# Altium schematic symbol library rlc.SchLib: 226 symbols (part 2 of 2)
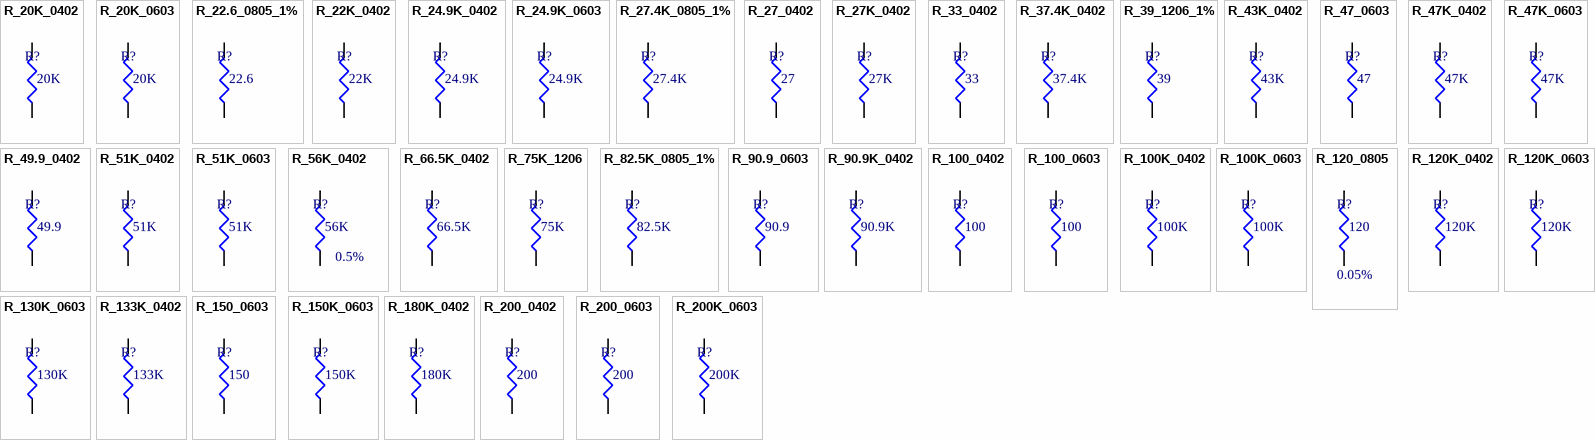
[diagram p6: symbols R_20K_0402 to R_200K_0603]

## R_20K_0603
designator R?, comment value 20K  (hidden comment: Chip resistor)
Chip resistor, 20K, 0603 package; tolerance: 1%; power: 1/10 W; package: 0603; Supplier 1: Digi-Key; Supplier Part Number 1: 541-20.0KHCT-ND
footprint 0603 (2-Leads, Body 1.55x0.85mm, IPC Medium Density)
pins: 1, 2

## R_22.6_0805_1%
designator R?, comment value 22.6  (hidden comment: Chip resistor)
Chip resistor, 22.6, 0805 package, 1%; power: 1/8 W; tolerance: 1%; package: 0805; Supplier 1: Digi-Key; Supplier Part Number 1: 541-22.6CCT-ND
footprint 0805 (Chip Resistor, Body 2.0x1.2mm, IPC Low Density)
pins: 1, 2

## R_22K_0402
designator R?, comment value 22K  (hidden comment: Chip resistor)
Chip resistor, 22K, 0402 package; tolerance: 1%; power: 1/16 W; package: 0402; Supplier 1: Digi-Key; Supplier Part Number 1: 541-22.0KLCT-ND
footprint 0402 (Chip Resistor, 2-Leads, Body 1.00x0.50mm, IPC Medium Density)
pins: 1, 2

## R_24.9K_0402
designator R?, comment value 24.9K  (hidden comment: Chip resistor)
Chip resistor, 24.9K, 0402 package; tolerance: 1%; power: 1/16 W; package: 0402; Supplier 1: Digi-Key; Supplier Part Number 1: 541-24.9KLCT-ND
footprint 0402 (2-Leads, Body 1.00x0.50mm, IPC Medium Density)
pins: 1, 2

## R_24.9K_0603
designator R?, comment value 24.9K  (hidden comment: Chip resistor)
Chip resistor, 24.9K, 0603 package; tolerance: 1%; power: 1/10 W; package: 0603; Supplier 1: Digi-Key; Supplier Part Number 1: 541-24.9KHCT-ND
footprint 0603 (2-Leads, Body 1.55x0.85mm, IPC Medium Density)
pins: 1, 2

## R_27.4K_0805_1%
designator R?, comment value 27.4K  (hidden comment: Chip resistor)
Chip resistor, 27.4K, 0805 package, 1%; power: 1/8 W; tolerance: 1%; package: 0805; Supplier 1: Digi-Key; Supplier Part Number 1: 541-27.4KCCT-ND
footprint 0805 (Chip Resistor, Body 2.0x1.2mm, IPC Low Density)
pins: 1, 2

## R_27_0402
designator R?, comment value 27  (hidden comment: Chip resistor)
Chip resistor, 27, 0402 package; tolerance: 1%; power: 1/16 W; package: 0402; Supplier 1: Digi-Key; Supplier Part Number 1: 541-27.0LCT-ND
footprint 0402 (Chip Resistor, 2-Leads, Body 1.00x0.50mm, IPC Medium Density)
pins: 1, 2

## R_27K_0402
designator R?, comment value 27K  (hidden comment: Chip resistor)
Chip resistor, 27K, 0402 package; tolerance: 1%; power: 1/16 W; package: 0402; Supplier 1: Digi-Key; Supplier Part Number 1: 541-27.0KLCT-ND
footprint 0402 (Chip Resistor, 2-Leads, Body 1.00x0.50mm, IPC Medium Density)
pins: 1, 2

## R_33_0402
designator R?, comment value 33  (hidden comment: Chip resistor)
Chip resistor, 33, 0402 package; tolerance: 1%; power: 1/16 W; package: 0402; Supplier 1: Digi-Key; Supplier Part Number 1: 541-33.0LCT-ND
footprint 0402 (Chip Resistor, 2-Leads, Body 1.00x0.50mm, IPC Medium Density)
pins: 1, 2

## R_37.4K_0402
designator R?, comment value 37.4K  (hidden comment: Chip resistor)
Chip resistor, 37.4K, 0402 package; tolerance: 1%; power: 1/16 W; package: 0402; Supplier 1: Digi-Key; Supplier Part Number 1: 541-37.4KLCT-ND
footprint 0402 (Chip Resistor, 2-Leads, Body 1.00x0.50mm, IPC Medium Density)
pins: 1, 2

## R_39_1206_1%
designator R?, comment value 39  (hidden comment: Chip resistor)
Chip resistor, 39, 1%, 1206 package; power: 1/4 W; tolerance: 1%; package: 1206; Supplier 1: Digi-Key; Supplier Part Number 1: 541-39.0FCT-ND
footprint 1206
pins: 1, 2

## R_43K_0402
designator R?, comment value 43K  (hidden comment: Chip resistor)
Chip resistor, 43K, 0402 package; tolerance: 1%; power: 1/16 W; Supplier 1: Digi-Key; Supplier Part Number 1: 541-43.0KLCT-ND; package: 0402
footprint 0402 (Chip Resistor, 2-Leads, Body 1.00x0.50mm, IPC Medium Density)
pins: 1, 2

## R_47_0603
designator R?, comment value 47  (hidden comment: Chip resistor)
Chip resistor, 47, 0603 package; tolerance: 1%; power: 1/10 W; package: 0603; Supplier 1: Digi-Key; Supplier Part Number 1: 541-47.0HCT-ND
footprint 0603 (2-Leads, Body 1.55x0.85mm, IPC Medium Density)
pins: 1, 2

## R_47K_0402
designator R?, comment value 47K  (hidden comment: Chip resistor)
Chip resistor, 47K, 0402 package; tolerance: 1%; power: 1/16 W; package: 0402; Supplier 1: Digi-Key; Supplier Part Number 1: 541-47.0KLCT-ND
footprint 0402 (Chip Resistor, 2-Leads, Body 1.00x0.50mm, IPC Medium Density)
pins: 1, 2

## R_47K_0603
designator R?, comment value 47K  (hidden comment: Chip resistor)
Chip resistor, 47K, 0603 package; tolerance: 1%; power: 1/10 W; package: 0603; Supplier 1: Digi-Key; Supplier Part Number 1: 541-47.0KHCT-ND
footprint 0603 (2-Leads, Body 1.55x0.85mm, IPC Medium Density)
pins: 1, 2

## R_49.9_0402
designator R?, comment value 49.9  (hidden comment: Chip resistor)
Chip resistor, 49.9, 0402 package; tolerance: 1%; power: 1/16 W; package: 0402; Supplier 1: Digi-Key; Supplier Part Number 1: 541-49.9LCT-ND
footprint 0402 (Chip Resistor, 2-Leads, Body 1.00x0.50mm, IPC Medium Density)
pins: 1, 2

## R_51K_0402
designator R?, comment value 51K  (hidden comment: Chip resistor)
Chip resistor, 51K, 0402 package; tolerance: 1%; power: 1/16 W; package: 0402; Supplier 1: Digi-Key; Supplier Part Number 1: 541-51.0KLCT-ND
footprint 0402 (2-Leads, Body 1.00x0.50mm, IPC Medium Density)
pins: 1, 2

## R_51K_0603
designator R?, comment value 51K  (hidden comment: Chip resistor)
Chip resistor, 51K, 0603 package; tolerance: 1%; power: 1/10 W; package: 0603; Supplier 1: Digi-Key; Supplier Part Number 1: 541-51.0KHCT-ND
footprint 0603 (2-Leads, Body 1.55x0.85mm, IPC Medium Density)
pins: 1, 2

## R_56K_0402
designator R?, comment value 56K  tolerance: 0.5%  (hidden comment: Chip resistor)
Chip resistor, 56K, 0402 package; power: 1/16 W; Temperature coefficient: 25 ppm/C; package: 0402; Supplier 1: Digi-Key; Supplier Part Number 1: P56KDECT-ND
footprint 0402 (Chip Resistor, 2-Leads, Body 1.00x0.50mm, IPC Medium Density)
pins: 1, 2

## R_66.5K_0402
designator R?, comment value 66.5K  (hidden comment: Chip resistor)
Chip resistor, 66.5K, 0402 package; tolerance: 1%; power: 1/16 W; package: 0402; Supplier 1: Digi-Key; Supplier Part Number 1: 541-66.5KLCT-ND
footprint 0402 (Chip Resistor, 2-Leads, Body 1.00x0.50mm, IPC Medium Density)
pins: 1, 2

## R_75K_1206
designator R?, comment value 75K  (hidden comment: Chip resistor)
Chip resistor, 75K, 1206 package; power: 1/4 W; Temperature coefficient: 100 ppm/C; tolerance: 1%; package: 1206; Supplier 1: Digi-Key; Supplier Part Number 1: 541-75.0KFCT-ND
footprint 1206
pins: 1, 2

## R_82.5K_0805_1%
designator R?, comment value 82.5K  (hidden comment: Chip resistor)
Chip resistor, 82.5K, 0805 package, 1%; power: 1/8 W; tolerance: 1%; package: 0805; Supplier 1: Digi-Key; Supplier Part Number 1: 541-82.5KCCT-ND
footprint 0805 (Chip Resistor, Body 2.0x1.2mm, IPC Low Density)
pins: 1, 2

## R_90.9_0603
designator R?, comment value 90.9  (hidden comment: Chip resistor)
Chip resistor, 90.9, 0603 package; tolerance: 0.1%; power: 1/10 W; package: 0603; Supplier 1: Digi-Key; Supplier Part Number 1: P90.9DBCT-ND
footprint 0603 (2-Leads, Body 1.55x0.85mm, IPC Medium Density)
pins: 1, 2

## R_90.9K_0402
designator R?, comment value 90.9K  (hidden comment: Chip resistor)
Chip resistor, 90.9K, 0402 package; tolerance: 1%; power: 1/16 W; package: 0402; Supplier 1: Digi-Key; Supplier Part Number 1: 541-90.9KLCT-ND
footprint 0402 (Chip Resistor, 2-Leads, Body 1.00x0.50mm, IPC Medium Density)
pins: 1, 2

## R_100_0402
designator R?, comment value 100  (hidden comment: Chip resistor)
Chip resistor, 100, 0402 package; tolerance: 1%; power: 1/16 W; package: 0402; Supplier 1: Digi-Key; Supplier Part Number 1: 541-100LCT-ND
footprint 0402 (Chip Resistor, 2-Leads, Body 1.00x0.50mm, IPC Medium Density)
pins: 1, 2

## R_100_0603
designator R?, comment value 100  (hidden comment: Chip resistor)
Chip resistor, 100,  0603 package; tolerance: 0.1%; power: 1/1 W; Temperature Coefficient: 25 ppm; package: 0603; Supplier 1: Digi-Key; Supplier Part Number 1: TNP100AACT-ND
footprint 0603 (2-Leads, Body 1.55x0.85mm, IPC Medium Density)
pins: 1, 2

## R_100K_0402
designator R?, comment value 100K  (hidden comment: Chip resistor)
Chip resistor, 100K, 0402 package; tolerance: 1%; power: 1/16 W; Supplier 1: Digi-Key; Supplier Part Number 1: 541-100KLCT-ND; package: 0402
footprint 0402 (Chip Resistor, 2-Leads, Body 1.00x0.50mm, IPC Medium Density)
pins: 1, 2

## R_100K_0603
designator R?, comment value 100K  (hidden comment: Chip resistor)
Chip resistor, 100K, 0603 package; tolerance: 1%; power: 1/10 W; package: 0603; Supplier 1: Digi-Key; Supplier Part Number 1: 541-100KHCT-ND
footprint 0603 (2-Leads, Body 1.55x0.85mm, IPC Medium Density)
pins: 1, 2

## R_120_0805
designator R?, comment value 120  Tolerance: 0.05%  (hidden comment: Chip resistor)
Chip resistor, 120, 0805 package, current sense; Temerature Coef: 10 ppm; Power: 0.125 W; package: 0805; Supplier 1: Digi-Key; Supplier Part Number 1: RG20N120WCT-ND
footprint 0805 (Chip Resistor, Body 2.0x1.2mm, IPC Low Density)
pins: 1, 2

## R_120K_0402
designator R?, comment value 120K  (hidden comment: Chip resistor)
Chip resistor, 120K, 0402 package; tolerance: 1%; power: 1/16 W; package: 0402; Supplier 1: Digi-Key; Supplier Part Number 1: 541-120KLCT-ND
footprint 0402 (2-Leads, Body 1.00x0.50mm, IPC Medium Density)
pins: 1, 2

## R_120K_0603
designator R?, comment value 120K  (hidden comment: Chip resistor)
Chip resistor, 120K, 0603 package; tolerance: 1%; power: 1/10 W; package: 0603; Supplier 1: Digi-Key; Supplier Part Number 1: 541-120KHCT-ND
footprint 0603 (2-Leads, Body 1.55x0.85mm, IPC Medium Density)
pins: 1, 2

## R_130K_0603
designator R?, comment value 130K  (hidden comment: Chip resistor)
Chip resistor, 130K, 0603 package; tolerance: 1%; power: 1/10 W; package: 0603; Supplier 1: Digi-Key; Supplier Part Number 1: 311-130KHRCT-ND
footprint 0603 (2-Leads, Body 1.55x0.85mm, IPC Medium Density)
pins: 1, 2

## R_133K_0402
designator R?, comment value 133K  (hidden comment: Chip resistor)
Chip resistor, 133K, 0402 package; tolerance: 1%; power: 1/16 W; package: 0402; Supplier 1: Digi-Key; Supplier Part Number 1: 541-133KLCT-ND
footprint 0402 (Chip Resistor, 2-Leads, Body 1.00x0.50mm, IPC Medium Density)
pins: 1, 2

## R_150_0603
designator R?, comment value 150  (hidden comment: Chip resistor)
Chip resistor, 150,  0603 package; tolerance: 1%; power: 1/1 W; package: 0603; Supplier 1: Digi-Key; Supplier Part Number 1: 541-150HCT-ND
footprint 0603 (2-Leads, Body 1.55x0.85mm, IPC Medium Density)
pins: 1, 2

## R_150K_0603
designator R?, comment value 150K  (hidden comment: Chip resistor)
Chip resistor, 150K, 0603 package; tolerance: 1%; power: 1/10 W; package: 0603; Supplier 1: Digi-Key; Supplier Part Number 1: 541-150KHCT-ND
footprint 0603 (2-Leads, Body 1.55x0.85mm, IPC Medium Density)
pins: 1, 2

## R_180K_0402
designator R?, comment value 180K  (hidden comment: Chip resistor)
Chip resistor, 180K, 0402 package; tolerance: 1%; power: 1/16 W; package: 0402; Supplier 1: Digi-Key; Supplier Part Number 1: 541-180KLCT-ND
footprint 0402 (Chip Resistor, 2-Leads, Body 1.00x0.50mm, IPC Medium Density)
pins: 1, 2

## R_200_0402
designator R?, comment value 200  (hidden comment: Chip resistor)
Chip resistor, 200, 0402 package; tolerance: 1%; power: 1/16 W; package: 0402; Supplier 1: Digi-Key; Supplier Part Number 1: 541-200LCT-ND
footprint 0402 (Chip Resistor, 2-Leads, Body 1.00x0.50mm, IPC Medium Density)
pins: 1, 2

## R_200_0603
designator R?, comment value 200  (hidden comment: Chip resistor)
Chip resistor, 200, 0603 package; tolerance: 1%; power: 1/10 W; Temperature Coef: 100 ppm; package: 0603; Supplier 1: Digi-Key; Supplier Part Number 1: 541-200HCT-ND
footprint 0603 (2-Leads, Body 1.55x0.85mm, IPC Medium Density)
pins: 1, 2

## R_200K_0603
designator R?, comment value 200K  (hidden comment: Chip resistor)
Chip resistor, 200K, 0603 package; tolerance: 1%; power: 1/10 W; package: 0603; Supplier 1: Digi-Key; Supplier Part Number 1: 541-200KHCT-ND
footprint 0603 (2-Leads, Body 1.55x0.85mm, IPC Medium Density)
pins: 1, 2

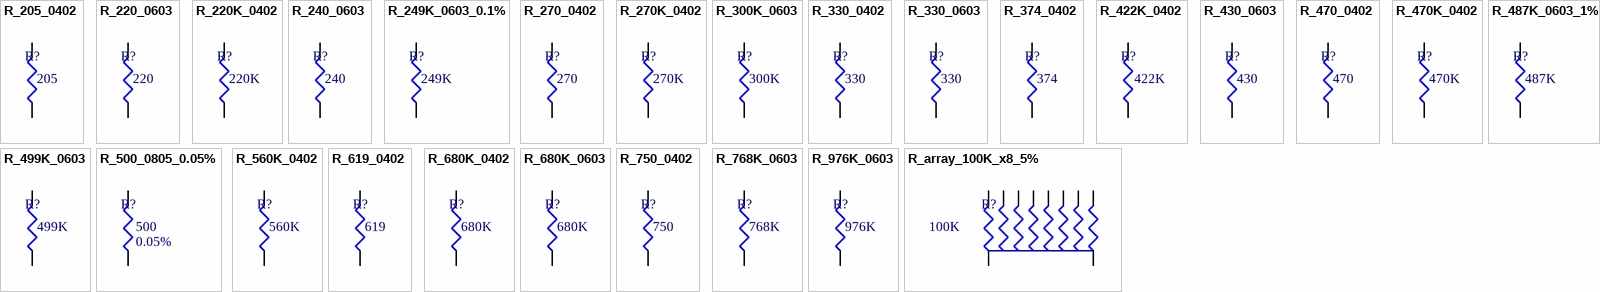
[diagram p5: symbols R_205_0402 to R_array_100K_x8_5%]

## R_205_0402
designator R?, comment value 205  (hidden comment: Chip resistor)
Chip resistor, 205, 0402 package; tolerance: 1%; power: 1/16 W; package: 0402; Supplier 1: Digi-Key; Supplier Part Number 1: 541-205LCT-ND
footprint 0402 (Chip Resistor, 2-Leads, Body 1.00x0.50mm, IPC Medium Density)
pins: 1, 2

## R_220_0603
designator R?, comment value 220  (hidden comment: Chip resistor)
Chip resistor, 220, 0603 package; tolerance: 1%; power: 1/10 W; package: 0603; Supplier 1: Digi-Key; Supplier Part Number 1: 541-220HCT-ND
footprint 0603 (2-Leads, Body 1.55x0.85mm, IPC Medium Density)
pins: 1, 2

## R_220K_0402
designator R?, comment value 220K  (hidden comment: Chip resistor)
Chip resistor, 220K, 0402 package; tolerance: 1%; power: 1/16 W; package: 0402; Supplier 1: Digi-Key; Supplier Part Number 1: 541-220KLCT-ND
footprint 0402 (Chip Resistor, 2-Leads, Body 1.00x0.50mm, IPC Medium Density)
pins: 1, 2

## R_240_0603
designator R?, comment value 240  (hidden comment: Chip resistor)
Chip resistor, 240, 0603 package; tolerance: 5%; power: 0.25 W; package: 0603; Supplier 1: Digi-Key; Supplier Part Number 1: RHM240DCT-ND
footprint 0603 (2-Leads, Body 1.55x0.85mm, IPC Medium Density)
pins: 1, 2

## R_249K_0603_0.1%
designator R?, comment value 249K  (hidden comment: Chip resistor)
Chip resistor, 249 K, 0603 package; tolerance: 0.1%; power: 1/10 W; Temperature Coef: 25 ppm; package: 0603; Supplier 1: Digi-Key; Supplier Part Number 1: P249KDBCT-ND
footprint 0603 (2-Leads, Body 1.55x0.85mm, IPC Medium Density)
pins: 1, 2

## R_270_0402
designator R?, comment value 270  (hidden comment: Chip resistor)
Chip resistor, 270, 0402 package; tolerance: 1%; power: 1/16 W; package: 0402; Supplier 1: Digi-Key; Supplier Part Number 1: 541-270LCT-ND
footprint 0402 (Chip Resistor, 2-Leads, Body 1.00x0.50mm, IPC Medium Density)
pins: 1, 2

## R_270K_0402
designator R?, comment value 270K  (hidden comment: Chip resistor)
Chip resistor, 270K, 0402 package; tolerance: 1%; power: 1/16 W; package: 0402; Supplier 1: Digi-Key; Supplier Part Number 1: 541-270KLCT-ND
footprint 0402 (Chip Resistor, 2-Leads, Body 1.00x0.50mm, IPC Medium Density)
pins: 1, 2

## R_300K_0603
designator R?, comment value 300K  (hidden comment: Chip resistor)
Chip resistor, 300K, 0603 package; tolerance: 1%; power: 1/10 W; package: 0603; Supplier 1: Digi-Key; Supplier Part Number 1: 541-300KHCT-ND
footprint 0603 (2-Leads, Body 1.55x0.85mm, IPC Medium Density)
pins: 1, 2

## R_330_0402
designator R?, comment value 330  (hidden comment: Chip resistor)
Chip resistor, 330, 0402 package; tolerance: 1%; power: 1/16 W; package: 0402; Supplier 1: Digi-Key; Supplier Part Number 1: 541-330LCT-ND
footprint 0402 (Chip Resistor, 2-Leads, Body 1.00x0.50mm, IPC Medium Density)
pins: 1, 2

## R_330_0603
designator R?, comment value 330  (hidden comment: Chip resistor)
Chip resistor, 330, 0603 package; tolerance: 1%; power: 1/10 W; package: 0603; Supplier 1: Digi-Key; Supplier Part Number 1: 541-330HCT-ND
footprint 0603 (2-Leads, Body 1.55x0.85mm, IPC Medium Density)
pins: 1, 2

## R_374_0402
designator R?, comment value 374  (hidden comment: Chip resistor)
Chip resistor, 374, 0402 package; tolerance: 1%; power: 1/16 W; package: 0402; Supplier 1: Digi-Key; Supplier Part Number 1: 541-374LCT-ND
footprint 0402 (Chip Resistor, 2-Leads, Body 1.00x0.50mm, IPC Medium Density)
pins: 1, 2

## R_422K_0402
designator R?, comment value 422K  (hidden comment: Chip resistor)
Chip resistor, 422K, 0402 package; tolerance: 1%; power: 1/16 W; package: 0402; Supplier 1: Digi-Key; Supplier Part Number 1: 541-422KLCT-ND
footprint 0402 (Chip Resistor, 2-Leads, Body 1.00x0.50mm, IPC Medium Density)
pins: 1, 2

## R_430_0603
designator R?, comment value 430  (hidden comment: Chip resistor)
Chip resistor, 430, 0603 package; tolerance: 1%; power: 1/10 W; package: 0603; Supplier 1: Digi-Key; Supplier Part Number 1: 541-430HCT-ND
footprint 0603 (2-Leads, Body 1.55x0.85mm, IPC Medium Density)
pins: 1, 2

## R_470_0402
designator R?, comment value 470  (hidden comment: Chip resistor)
Chip resistor, 470, 0402 package; tolerance: 1%; power: 1/16 W; package: 0402; Supplier 1: Digi-Key; Supplier Part Number 1: 541-470LCT-ND
footprint 0402 (Chip Resistor, 2-Leads, Body 1.00x0.50mm, IPC Medium Density)
pins: 1, 2

## R_470K_0402
designator R?, comment value 470K  (hidden comment: Chip resistor)
Chip resistor, 470K, 0402 package; tolerance: 5%; power: 1/16 W; package: 0402; Supplier 1: Digi-Key; Supplier Part Number 1: 541-470KJCT-ND
footprint 0402 (Chip Resistor, 2-Leads, Body 1.00x0.50mm, IPC Medium Density)
pins: 1, 2

## R_487K_0603_1%
designator R?, comment value 487K  (hidden comment: Chip resistor)
Chip resistor, 487K, 0603 package, 1%; power: 1/10 W; tolerance: 1%; package: 0603; Supplier 1: Digi-Key; Supplier Part Number 1: 541-487KHCT-ND
footprint 0603 (2-Leads, Body 1.55x0.85mm, IPC Medium Density)
pins: 1, 2

## R_499K_0603
designator R?, comment value 499K  (hidden comment: Chip resistor)
Chip resistor, 499K, 0603 package; tolerance: 1%; power: 1/10 W; package: 0603; Supplier 1: Digi-Key; Supplier Part Number 1: 541-499KSCT-ND
footprint 0603 (2-Leads, Body 1.55x0.85mm, IPC Medium Density)
pins: 1, 2

## R_500_0805_0.05%
designator R?, comment value 500  tolerance: 0.05%  (hidden comment: Chip resistor)
Chip resistor, 500, 0805 package, 0.05%; power: 0.25 W; Temperature Coef: 5 ppm; package: 0805; Supplier 1: Digi-Key; Supplier Part Number 1: PLT0805-500ACT-ND
footprint 0805 (Chip Resistor, Body 2.0x1.2mm, IPC Low Density)
pins: 1, 2

## R_560K_0402
designator R?, comment value 560K  (hidden comment: Chip resistor)
Chip resistor, 560K, 0402 package; tolerance: 1%; power: 1/16 W; package: 0402; Supplier 1: Digi-Key; Supplier Part Number 1: 541-560KLCT-ND
footprint 0402 (Chip Resistor, 2-Leads, Body 1.00x0.50mm, IPC Medium Density)
pins: 1, 2

## R_619_0402
designator R?, comment value 619  (hidden comment: Chip resistor)
Chip resistor, 619, 0402 package; tolerance: 1%; power: 1/16 W; package: 0402; Supplier 1: Digi-Key; Supplier Part Number 1: 541-619LCT-ND
footprint 0402 (Chip Resistor, 2-Leads, Body 1.00x0.50mm, IPC Medium Density)
pins: 1, 2

## R_680K_0402
designator R?, comment value 680K  (hidden comment: Chip resistor)
Chip resistor, 680K, 0402 package; tolerance: 1%; power: 1/16 W; package: 0402; Supplier 1: Digi-Key; Supplier Part Number 1: 541-680KLCT-ND
footprint 0402 (2-Leads, Body 1.00x0.50mm, IPC Medium Density)
pins: 1, 2

## R_680K_0603
designator R?, comment value 680K  (hidden comment: Chip resistor)
Chip resistor, 680K, 0603 package; tolerance: 1%; power: 1/10 W; package: 0603; Supplier 1: Digi-Key; Supplier Part Number 1: 541-680KHCT-ND
footprint 0603 (2-Leads, Body 1.55x0.85mm, IPC Medium Density)
pins: 1, 2

## R_750_0402
designator R?, comment value 750  (hidden comment: Chip resistor)
Chip resistor, 750, 0402 package; tolerance: 1%; power: 1/16 W; package: 0402; Supplier 1: Digi-Key; Supplier Part Number 1: 541-750LCT-ND
footprint 0402 (Chip Resistor, 2-Leads, Body 1.00x0.50mm, IPC Medium Density)
pins: 1, 2

## R_768K_0603
designator R?, comment value 768K  (hidden comment: Chip resistor)
Chip resistor, 768K, 0603 package; tolerance: 1%; power: 1/10 W; package: 0603; Supplier 1: Digi-Key; Supplier Part Number 1: 311-768KHRCT-ND
footprint 0603 (2-Leads, Body 1.55x0.85mm, IPC Medium Density)
pins: 1, 2

## R_976K_0603
designator R?, comment value 976K  (hidden comment: Chip resistor)
Chip resistor, 976K, 0603 package; tolerance: 1%; power: 1/10 W; package: 0603; Supplier 1: Digi-Key; Supplier Part Number 1: 541-976KHCT-ND
footprint 0603 (2-Leads, Body 1.55x0.85mm, IPC Medium Density)
pins: 1, 2

## R_array_100K_x8_5%
designator R?, comment value 100K  (hidden comment: Chip resistor)
Chip resistor array, 100 K x 8, 5%; power: 0.063 W; tolerance: 5%; Supplier 1: Digi-Key; Supplier Part Number 1: 745C101104JPCT-ND
footprint 745C101 (CTS chip resistor array)
pins: 1, 2, 3, 4, 5, 6, 7, 8, 9, 10